# Altium footprint library inductor-B82472P6472M000.PcbLib: 2 footprints
Each footprint in its own frame and in the unit in brackets; x right, y up, seen from the top. Pads: shape width x height; smd on the part's side, far side on the other; paste and mask are expansions set on the pad; w line width, h text height; cw(c..) or ccw(c..) is an arc to the next point about the centre after c.
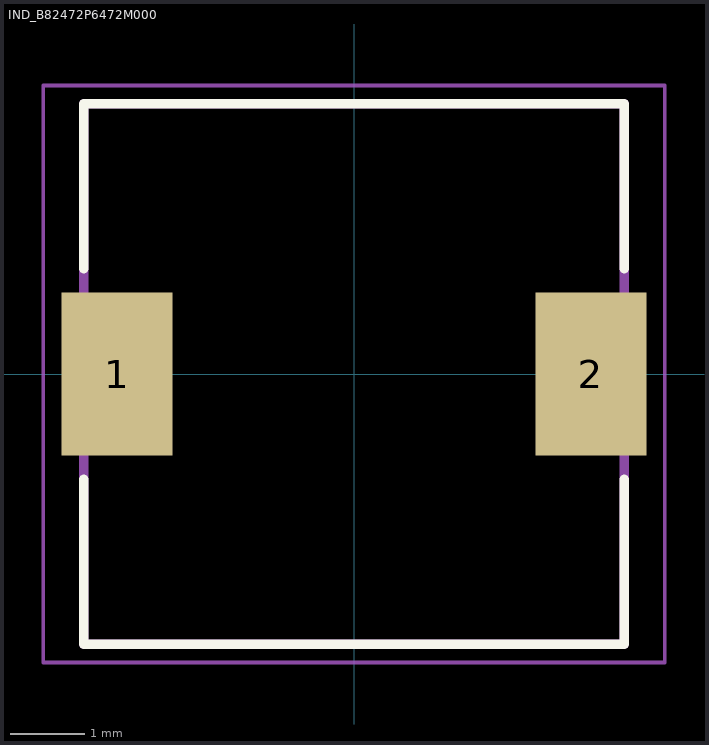
[diagram p0: the footprints below, top view; thin cyan lines are the x and y axes]

## IND_B82472P6472M000 [mm]
height 4.5
pads (2):
  rect 1.5x2.2 smd: 1(-3.2,0) 2(3.2,0)
Top Overlay:
  lines w0.127: -3.65,-1.42 -3.65,-3.65 3.65,-3.65 3.65,-1.42 ; -3.65,1.42 -3.65,3.65 3.65,3.65 3.65,1.42
Mechanical 13:
  lines w0.127: -3.65,-3.65 -3.65,3.65 3.65,3.65 3.65,-3.65 -3.65,-3.65
Mechanical 15:
  lines w0.05: -4.2,-3.9 -4.2,3.9 4.2,3.9 4.2,-3.9 -4.2,-3.9
3D body "B82472P6472M000.STEP": height 4.5, standoff 0, extent -3.65,-3.65 3.65,3.65

## PCBComponent_1 [mm]